# EAGLE library part PIC2XXFXXXB (library dfmt)
PIC2xxFxxxb Should be comatible with: PIC32MX210F016B PIC32MX220F032B PIC32MX230F064B PIC32MX250F128B PIC32MX270F256B
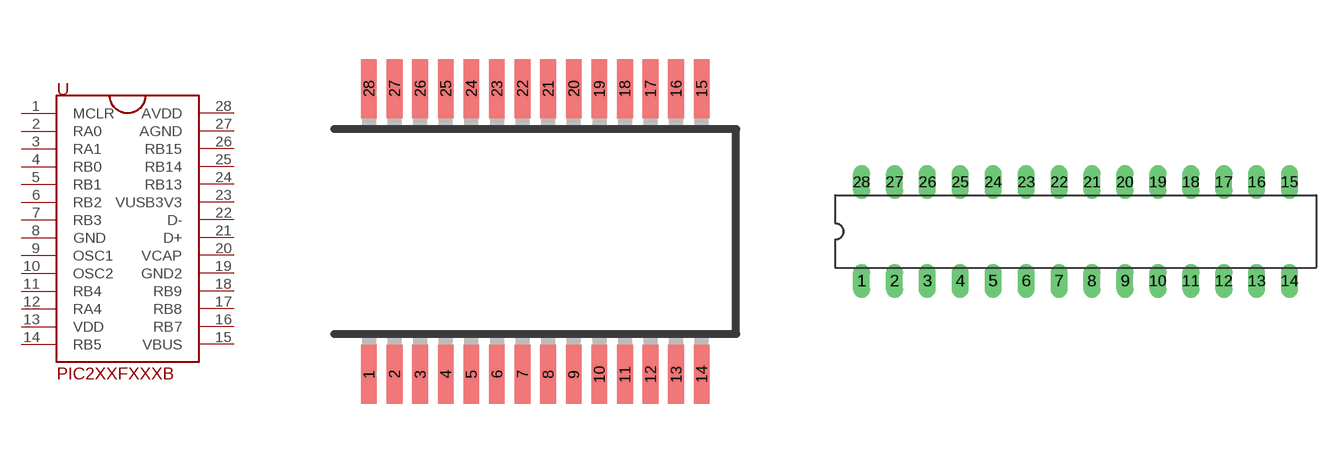
[diagram p1: symbol with the pads of SSOP28; footprints SSOP28, DIL28-3]

Designator prefix -

## PIC2XXFXXXBSMT  [SSOP28]
1  MCLR  in
2  RA0
3  RA1
4  RB0
5  RB1
6  RB2
7  RB3
8  GND  pwr
9  OSC1
10  OSC2
11  RB4
12  RA4
13  VDD  pwr
14  RB5
15  VBUS  in
16  RB7
17  RB8
18  RB9
19  GND2  pwr
20  VCAP
21  D+
22  D-
23  VUSB3V3  pwr
24  RB13
25  RB14
26  RB15
27  AGND  pwr
28  AVDD  pwr

## PIC2XXFXXXB  [DIL28-3]
Pads as for SSOP28

## Footprint SSOP28 (pad centres in mm)
Shrink Small Outline Package package type SS
smd 0.4 x 1.5: 1 -4.225,-3.625; 2 -3.575,-3.625; 3 -2.925,-3.625; 4 -2.275,-3.625; 5 -1.625,-3.625; 6 -0.975,-3.625; 7 -0.325,-3.625; 8 0.325,-3.625; 9 0.975,-3.625; 10 1.625,-3.625; 11 2.275,-3.625; 12 2.925,-3.625; 13 3.575,-3.625; 14 4.225,-3.625; 15 4.225,3.625; 16 3.575,3.625; 17 2.925,3.625; 18 2.275,3.625; 19 1.625,3.625; 20 0.975,3.625; 21 0.325,3.625; 22 -0.325,3.625; 23 -0.975,3.625; 24 -1.625,3.625; 25 -2.275,3.625; 26 -2.925,3.625; 27 -3.575,3.625; 28 -4.225,3.625

## Footprint DIL28-3 (pad centres in mm)
Dual In Line 0.3 inch
drill 0.813 long: 1 -16.51,-3.81; 2 -13.97,-3.81; 3 -11.43,-3.81; 4 -8.89,-3.81; 5 -6.35,-3.81; 6 -3.81,-3.81; 7 -1.27,-3.81; 8 1.27,-3.81; 9 3.81,-3.81; 10 6.35,-3.81; 11 8.89,-3.81; 12 11.43,-3.81; 13 13.97,-3.81; 14 16.51,-3.81; 15 16.51,3.81; 16 13.97,3.81; 17 11.43,3.81; 18 8.89,3.81; 19 6.35,3.81; 20 3.81,3.81; 21 1.27,3.81; 22 -1.27,3.81; 23 -3.81,3.81; 24 -6.35,3.81; 25 -8.89,3.81; 26 -11.43,3.81; 27 -13.97,3.81; 28 -16.51,3.81